# EAGLE library part F1CL (library Relay_Fujitsu)
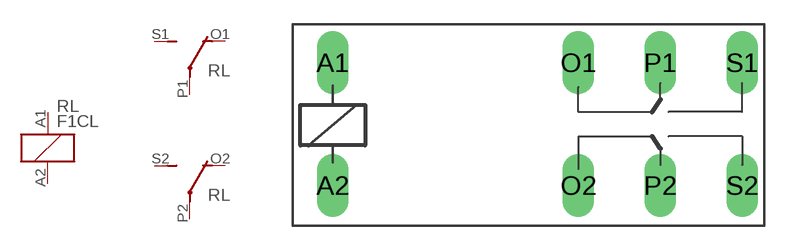
[diagram p1: symbol with the pads of FTR-F1; footprint FTR-F1]

Designator prefix RL; gates G$1=K G$2=U G$3=U

## F1CL024R  [FTR-F1]
A1  G$1:1  pas
A2  G$1:2  pas
O1  G$2:O  pas
O2  G$3:O  pas
P1  G$2:P  pas
P2  G$3:P  pas
S1  G$2:S  pas
S2  G$3:S  pas

## Footprint FTR-F1 (pad centres in mm)
drill 1.3 long: A1 -11.43,3.81; A2 -11.43,-3.81; O1 3.81,3.81; O2 3.81,-3.81; P1 8.89,3.81; P2 8.89,-3.81; S1 13.97,3.81; S2 13.97,-3.81